# EAGLE library part DIP08 (library vikc-switch)
SMD DIL switch 8 position 1.27mm pitch
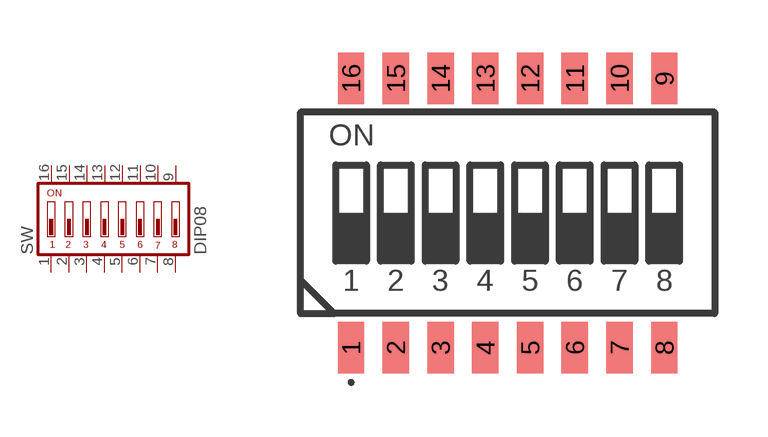
[diagram p1: symbol with the pads of DIP08-127; footprint DIP08-127]

Designator prefix SW

## DIP08  [DIP08-127]
1  1  pas
2  2  pas
3  3  pas
4  4  pas
5  5  pas
6  6  pas
7  7  pas
8  8  pas
9  9  pas
10  10  pas
11  11  pas
12  12  pas
13  13  pas
14  14  pas
15  15  pas
16  16  pas

## Footprint DIP08-127 (pad centres in mm)
smd 0.75 x 1.45: 1 -4.445,-3.823; 2 -3.175,-3.823; 3 -1.905,-3.823; 4 -0.635,-3.823; 5 0.635,-3.823; 6 1.905,-3.823; 7 3.175,-3.823; 8 4.445,-3.823; 9 4.445,3.823; 10 3.175,3.823; 11 1.905,3.823; 12 0.635,3.823; 13 -0.635,3.823; 14 -1.905,3.823; 15 -3.175,3.823; 16 -4.445,3.823